# Altium schematic symbol library 2450AT18B100E.SchLib: 1 symbol
Pins are listed as number, name and electrical type; pins without a type are passive.

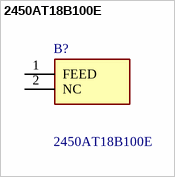
[diagram p0: symbol 2450AT18B100E]

## 2450AT18B100E
designator B?
Antennas 2.45GHz ANTENNA; Manufacturer_Name: JOHANSON TECHNOLOGY; Geometry.Height: 1.4mm; Manufacturer_Part_Number: 2450AT18B100E; Mouser Part Number: 609-2450AT18B100E; Mouser Price/Stock: https://www.mouser.co.uk/ProductDetail/Johanson-Technology/2450AT18B100E?qs=yCnrNFeXz%252Bh5MFsFIXGZGA%3D%3D; Arrow Part Number: 2450AT18B100E; Arrow Price/Stock: https://www.arrow.com/en/products/2450at18b100e/johanson-dielectrics?utm_currency=USD&region=europe; Datasheet Link: https://www.johansontechnology.com/datasheets/2450AT18B100/2450AT18B100.pdf
footprint ANTC3216X140N
pins: 1 FEED, 2 NC